# Altium integrated library micrel.IntLib: 4 symbols
Pins are listed as number, name and electrical type; pins without a type are passive.

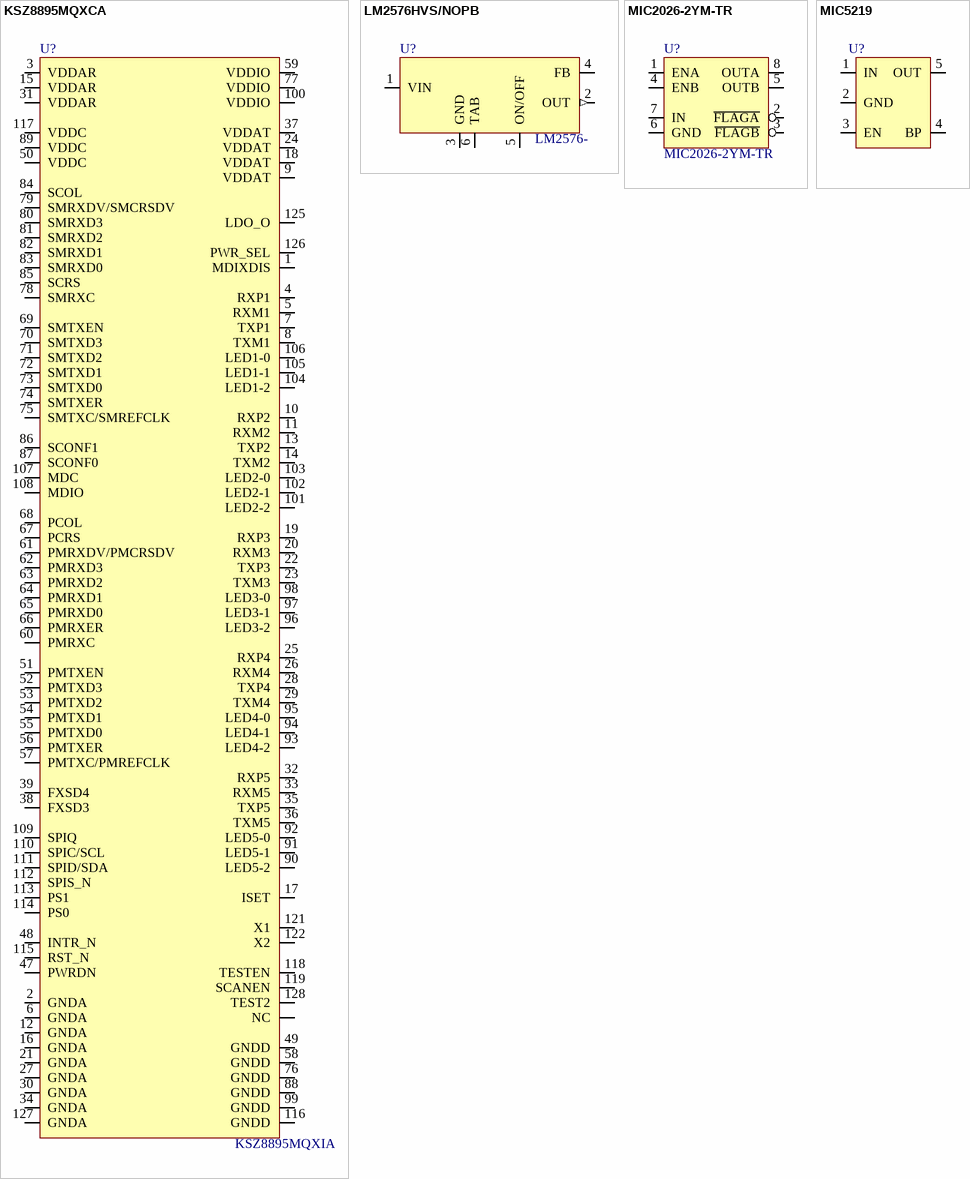
[diagram p0: symbols KSZ8895MQXCA to MIC5219]

## KSZ8895MQXCA
designator U?, comment KSZ8895MQXIA
Ethernet ICs 5-Port 10/100 Ether Switch with MII/RMII; Manuf1: Micrel; Populated: Yes; Supplier 1: Digi-Key; Supplier Part Number 1: 576-4856-ND; ManufPartnumber: KSZ8895MQXIA; ROHS: Yes; LatestRevisionDate: 01-02-2016; PackageReference: LQFP-128; ClassName: *; CodeJEDEC: *; HelpURL: *; LifeCycle: Checked; Value: KSZ8895MQXIA
footprint PQFP128L
pins: 1 MDIXDIS, 2 GNDA, 3 VDDAR, 4 RXP1, 5 RXM1, 6 GNDA, 7 TXP1, 8 TXM1, 9 VDDAT, 10 RXP2, 11 RXM2, 12 GNDA, 13 TXP2, 14 TXM2, 15 VDDAR, 16 GNDA, 17 ISET, 18 VDDAT, 19 RXP3, 20 RXM3, 21 GNDA, 22 TXP3, 23 TXM3, 24 VDDAT, 25 RXP4, 26 RXM4, 27 GNDA, 28 TXP4, 29 TXM4, 30 GNDA, 31 VDDAR, 32 RXP5, 33 RXM5, 34 GNDA, 35 TXP5, 36 TXM5, 37 VDDAT, 38 FXSD3, 39 FXSD4, 40, 41, 42, 43, 44, 45, 46, 120, 123, 124 NC, 47 PWRDN, 48 INTR_N, 49 GNDD, 50 VDDC, 51 PMTXEN, 52 PMTXD3, 53 PMTXD2, 54 PMTXD1, 55 PMTXD0, 56 PMTXER, 57 PMTXC/PMREFCLK, 58 GNDD, 59 VDDIO, 60 PMRXC, 61 PMRXDV/PMCRSDV, 62 PMRXD3, 63 PMRXD2, 64 PMRXD1, 65 PMRXD0, 66 PMRXER, 67 PCRS, 68 PCOL, 69 SMTXEN, 70 SMTXD3, 71 SMTXD2, 72 SMTXD1, 73 SMTXD0, 74 SMTXER, 75 SMTXC/SMREFCLK, 76 GNDD, 77 VDDIO, 78 SMRXC, 79 SMRXDV/SMCRSDV, 80 SMRXD3, 81 SMRXD2, 82 SMRXD1, 83 SMRXD0, 84 SCOL, 85 SCRS, 86 SCONF1, 87 SCONF0, 88 GNDD, 89 VDDC, 90 LED5-2, 91 LED5-1, 92 LED5-0, 93 LED4-2, 94 LED4-1, 95 LED4-0, 96 LED3-2, 97 LED3-1, 98 LED3-0, 99 GNDD, 100 VDDIO, 101 LED2-2, 102 LED2-1, 103 LED2-0, 104 LED1-2, 105 LED1-1, 106 LED1-0, 107 MDC, 108 MDIO, 109 SPIQ, 110 SPIC/SCL, 111 SPID/SDA, 112 SPIS_N, 113 PS1, 114 PS0, 115 RST_N, 116 GNDD, 117 VDDC, 118 TESTEN, 119 SCANEN, 121 X1, 122 X2, 125 LDO_O, 126 PWR_SEL, 127 GNDA, 128 TEST2

## LM2576HVS/NOPB
designator U?, comment LM2576-
IC REG BUCK  3A TO263-5; Manuf1: Microchip Technology/Micrel; Populated: Yes; Value: LM2576-; LatestRevisionDate: 24-02-2016; Manuf1Partnumber: LM2576-; PackageReference: TO263-5; ROHS: Yes; LifeCycle: Checked
footprint TO263-5
pins: 1 VIN, 2 OUT (out), 3 GND, 4 FB, 5 ON/OFF, 6 TAB

## MIC2026-2YM-TR
designator U?
IC SW DISTRIBUTION 2CHAN 8SOIC; Manufacturer: Microchip Technology; Switch Type: General Purpose; Number of Outputs: 2; Ratio - Input:Output: 1:2; Output Configuration: High Side; Output Type: N-Channel; Interface: On/Off; Voltage - Load: 2.7 V ~ 5.5 V; Voltage - Supply (Vcc/Vdd): Not Required; Current - Output (Max): 500mA; Rds On (Typ): 90 mOhm; Input Type: Non-Inverting; Fault Protection: Current Limiting (Fixed), Over Temperature, UVLO; Supplier 1: Digi-Key; Manufacturer Part Number: MIC2026-2YM-TR; RoHS: RoHS Compliant; Category: Integrated Circuits (ICs); Stock 1: 2199; Pricing 1: 1=1.03, 25=0.8652, 100=0.7828 (USD); Packaging: Cut Tape (CT); Part Status: Active; Features: Slew Rate Controlled, Status Flag; Operating Temperature: -40°C ~ 85°C (TA); Package / Case: 8-SOIC (0.154", 3.90mm Width); Supplier Device Package: 8-SOIC; ComponentLink1URL: http://www.microchip.com/mymicrochip/filehandler.aspx?ddocname=en579448; ComponentLink1Description: http://www.microchip.com/mymicrochip/filehandler.aspx?ddocname=en579448; Value: MIC2026-2YM-TR; Supplier Part Number 1: 576-1060-1-ND
footprint SOIC8
pins: 1 ENA, 2 ~{FLAGA}, 3 ~{FLAGB}, 4 ENB, 5 OUTB, 6 GND, 7 IN, 8 OUTA

## MIC5219
designator U?
Voltage Regulator LDO 500mA SOT-23; Manuf1: Microchip; Populated: Yes; ROHS: Yes; PackageReference: SOT23-5
footprint SOT23-5
footprint SC70
pins: 1 IN, 2 GND, 3 EN, 4 BP, 5 OUT